# EAGLE library part 1-1734248-5 (library CONNECTORs)
15 Position FPC Connector Contacts, Vertical, 1 Sided 0.039" (1.00mm) Surface Mount
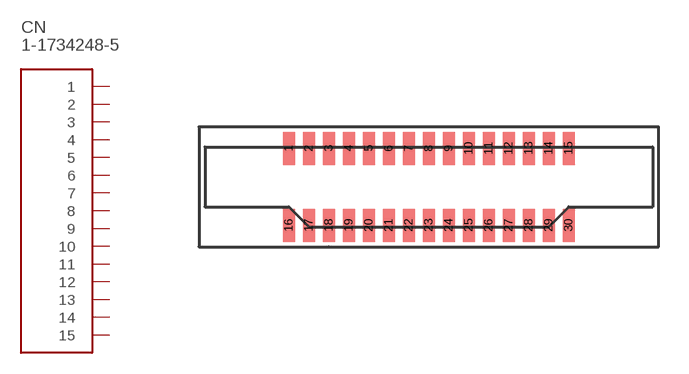
[diagram p45: symbol with the pads of 1-1734248-5; footprint 1-1734248-5]

Designator prefix CN

## 1-1734248-5 (DIGIKEY: A101418CT-ND; HEIGHT: 7.7; PRICE_PER: 0.83; VALUE: 15 PIN 1MM)  [1-1734248-5]
1  1
2  2
3  3
4  4
5  5
6  6
7  7
8  8
9  9
10  10
11  11
12  12
13  13
14  14
15  15
16  1
17  2
18  3
19  4
20  5
21  6
22  7
23  8
24  9
25  10
26  11
27  12
28  13
29  14
30  15

## Footprint 1-1734248-5 (pad centres in mm)
smd 0.6 x 1.65: 1 -7,1.925; 2 -6,1.925; 3 -5,1.925; 4 -4,1.925; 5 -3,1.925; 6 -2,1.925; 7 -1,1.925; 8 0,1.925; 9 1,1.925; 10 2,1.925; 11 3,1.925; 12 4,1.925; 13 5,1.925; 14 6,1.925; 15 7,1.925; 16 -7,-1.925; 17 -6,-1.925; 18 -5,-1.925; 19 -4,-1.925; 20 -3,-1.925; 21 -2,-1.925; 22 -1,-1.925; 23 0,-1.925; 24 1,-1.925; 25 2,-1.925; 26 3,-1.925; 27 4,-1.925; 28 5,-1.925; 29 6,-1.925; 30 7,-1.925